# EAGLE library part TAS2521 (library Custom_Library)
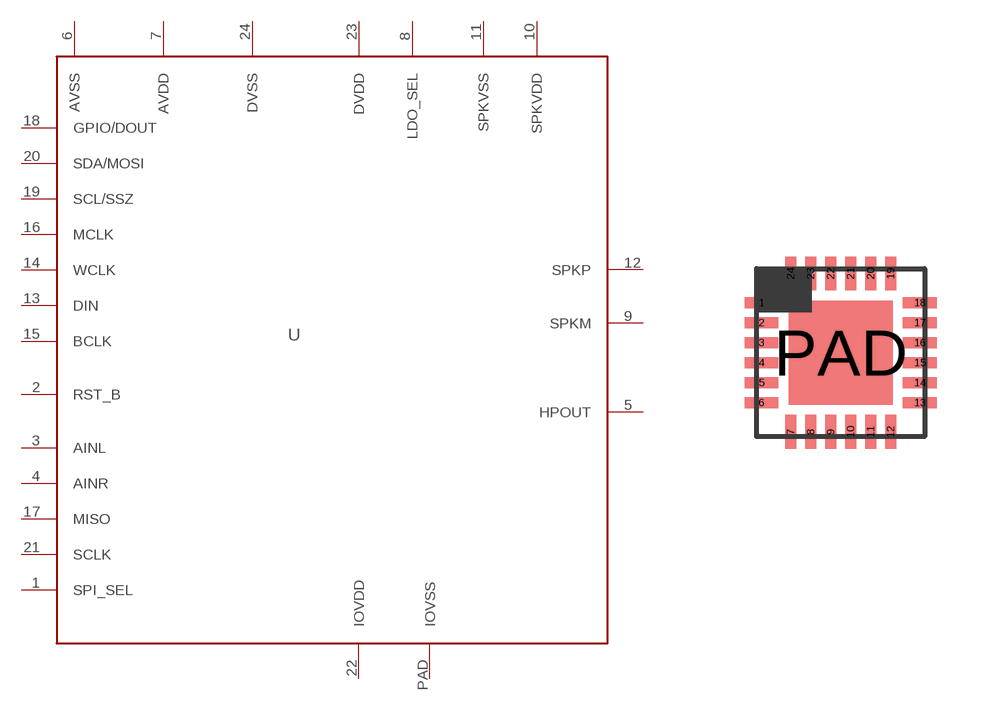
[diagram p28: symbol with the pads of QFN24; footprint QFN24]

Designator prefix U

## TAS2521  [QFN24]
1  SPI_SEL
2  RST_B
3  AINL
4  AINR
5  HPOUT
6  AVSS
7  AVDD
8  LDO_SEL
9  SPKM
10  SPKVDD
11  SPKVSS
12  SPKP
13  DIN
14  WCLK
15  BCLK
16  MCLK
17  MISO
18  GPIO/DOUT
19  SCL/SSZ
20  SDA/MOSI
21  SCLK
22  IOVDD
23  DVDD
24  DVSS
PAD  IOVSS

## Footprint QFN24 (pad centres in mm)
smd 0.85 x 0.28: 1 -1.98,1.25; 2 -1.98,0.75; 3 -1.98,0.25; 4 -1.98,-0.25; 5 -1.98,-0.75; 6 -1.98,-1.25; 13 1.98,-1.25; 14 1.98,-0.75; 15 1.98,-0.25; 16 1.98,0.25; 17 1.98,0.75; 18 1.98,1.25
smd 0.28 x 0.85: 7 -1.25,-1.98; 8 -0.75,-1.98; 9 -0.25,-1.98; 10 0.25,-1.98; 11 0.75,-1.98; 12 1.25,-1.98; 19 1.25,1.98; 20 0.75,1.98; 21 0.25,1.98; 22 -0.25,1.98; 23 -0.75,1.98; 24 -1.25,1.98
smd 2.6 x 2.6: PAD 0,0